# Altium schematic symbol library PIC_8bit.SchLib: 3 symbols
Pins are listed as number, name and electrical type; pins without a type are passive.

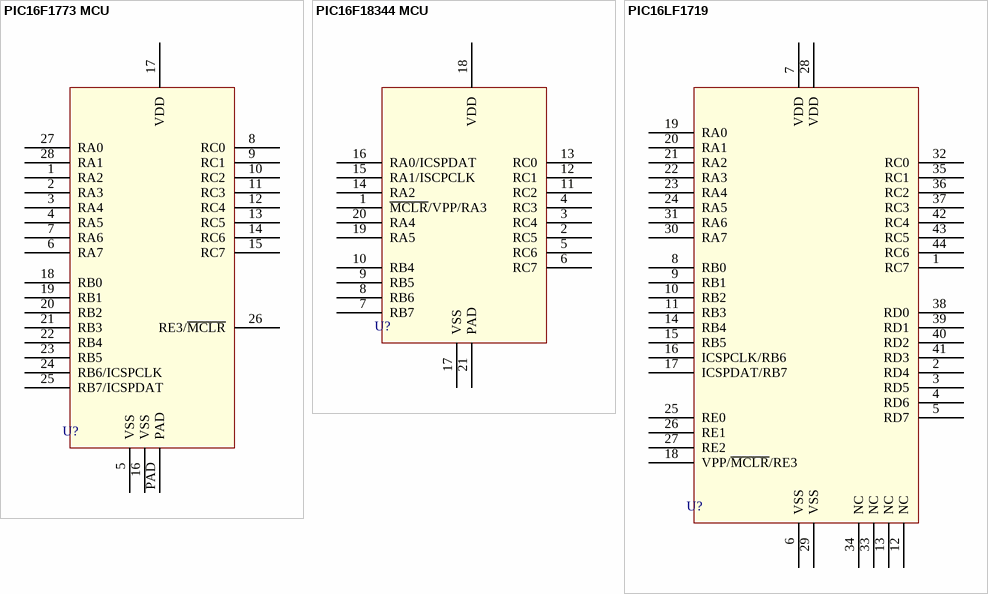
[diagram p0: symbols PIC16F1773 MCU to PIC16LF1719]

## PIC16F1773 MCU
designator U?, comment PIC16F1773  (value not drawn)
PIC16F1773 Microcontroller; Manufacturer Part No.: PIC16LF1773-I/MX; Digi-Key Part No.: PIC16LF1773-I/MX-ND
footprint PIC16F1773
pins: 1 RA2, 2 RA3, 3 RA4, 4 RA5, 5 VSS, 6 RA7, 7 RA6, 8 RC0, 9 RC1, 10 RC2, 11 RC3, 12 RC4, 13 RC5, 14 RC6, 15 RC7, 16 VSS, 17 VDD, 18 RB0, 19 RB1, 20 RB2, 21 RB3, 22 RB4, 23 RB5, 24 RB6/ICSPCLK, 25 RB7/ICSPDAT, 26 RE3/~{MCLR}, 27 RA0, 28 RA1, PAD

## PIC16F18344 MCU
designator U?, comment PIC16F18344-I/GZ  (value not drawn)
PIC16F18344 Microcontroller; Digi-Key Part No.: PIC16F18344-I/GZ; Manufacturer Part No.: PIC16F18344-I/GZ
footprint PIC16F18344-I/GZ
pins: 1 ~{MCLR}/VPP/RA3, 2 RC5, 3 RC4, 4 RC3, 5 RC6, 6 RC7, 7 RB7, 8 RB6, 9 RB5, 10 RB4, 11 RC2, 12 RC1, 13 RC0, 14 RA2, 15 RA1/ISCPCLK, 16 RA0/ICSPDAT, 17 VSS, 18 VDD, 19 RA5, 20 RA4, 21 PAD

## PIC16LF1719
designator U?, comment Microcontroller  (value not drawn)
PIC16LF1719 Microcontroller; Manufacturer Part No.: PIC16LF1719-I/PT; Digi-Key Part No.: PIC16LF1719-I/PT-ND
footprint PIC16LF1719 (TQFP, 44-Leads, Body 10.00x10.00mm, Pitch 0.80mm, IPC Medium Density)
pins: 1 RC7, 2 RD4, 3 RD5, 4 RD6, 5 RD7, 6 VSS, 7 VDD, 8 RB0, 9 RB1, 10 RB2, 11 RB3, 12 NC, 13 NC, 14 RB4, 15 RB5, 16 ICSPCLK/RB6, 17 ICSPDAT/RB7, 18 VPP/~{MCLR}/RE3, 19 RA0, 20 RA1, 21 RA2, 22 RA3, 23 RA4, 24 RA5, 25 RE0, 26 RE1, 27 RE2, 28 VDD, 29 VSS, 30 RA7, 31 RA6, 32 RC0, 33 NC, 34 NC, 35 RC1, 36 RC2, 37 RC3, 38 RD0, 39 RD1, 40 RD2, 41 RD3, 42 RC4, 43 RC5, 44 RC6